# Altium schematic symbol library BNO055.Schlib: 1 symbol
Pins are listed as number, name and electrical type; pins without a type are passive.

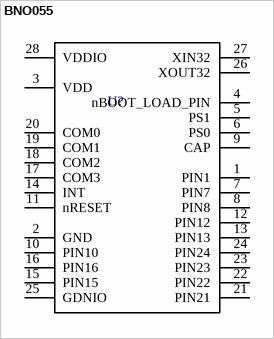
[diagram p0: symbol BNO055]

## BNO055
designator U?  (value not drawn)
Sensor, 9-Axis IMU, BNO055, LGA28
pins: 1 PIN1, 2 GND, 3 VDD, 4 nBOOT_LOAD_PIN, 5 PS1, 6 PS0, 7 PIN7, 8 PIN8, 9 CAP, 10 PIN10, 11 nRESET, 12 PIN12, 13 PIN13, 14 INT, 15 PIN15, 16 PIN16, 17 COM3, 18 COM2, 19 COM1, 20 COM0, 21 PIN21, 22 PIN22, 23 PIN23, 24 PIN24, 25 GDNIO, 26 XOUT32, 27 XIN32, 28 VDDIO